# EAGLE library part TPS62912RPUR (library My_Library_SDR)
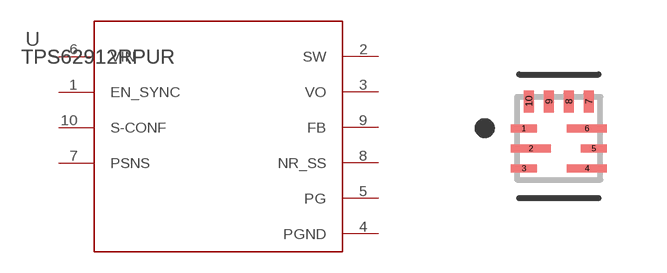
[diagram p4: symbol with the pads of RPU0010A-MFG; footprint RPU0010A-MFG]

Designator prefix U

## TPS62912RPUR (COPYRIGHT: Copyright (C) 2025 Ultra Librarian. All rights reserved.; MANUFACTURER_PART_NUMBER: TPS62912RPUR; MFR_NAME: Texas Instruments; REFDES: RefDes; TYPE: TYPE)  [RPU0010A-MFG]
1  EN_SYNC  in
2  SW  pas
3  VO  pas
4  PGND  pwr
5  PG  oc
6  VIN  pwr
7  PSNS  pwr
8  NR_SS  pas
9  FB  pas
10  S-CONF  pwr

## Footprint RPU0010A-MFG (pad centres in mm)
smd 0.65 x 0.2: 1 -0.875,0.25; 3 -0.875,-0.75; 5 0.875,-0.25
smd 1 x 0.2: 2 -0.7,-0.25; 4 0.7,-0.75; 6 0.7,0.25
smd 0.25 x 0.55: 7 0.75,0.925; 8 0.25,0.925; 9 -0.25,0.925; 10 -0.75,0.925